# Altium schematic symbol library Diode.SchLib: 24 symbols
Pins are listed as number, name and electrical type; pins without a type are passive.

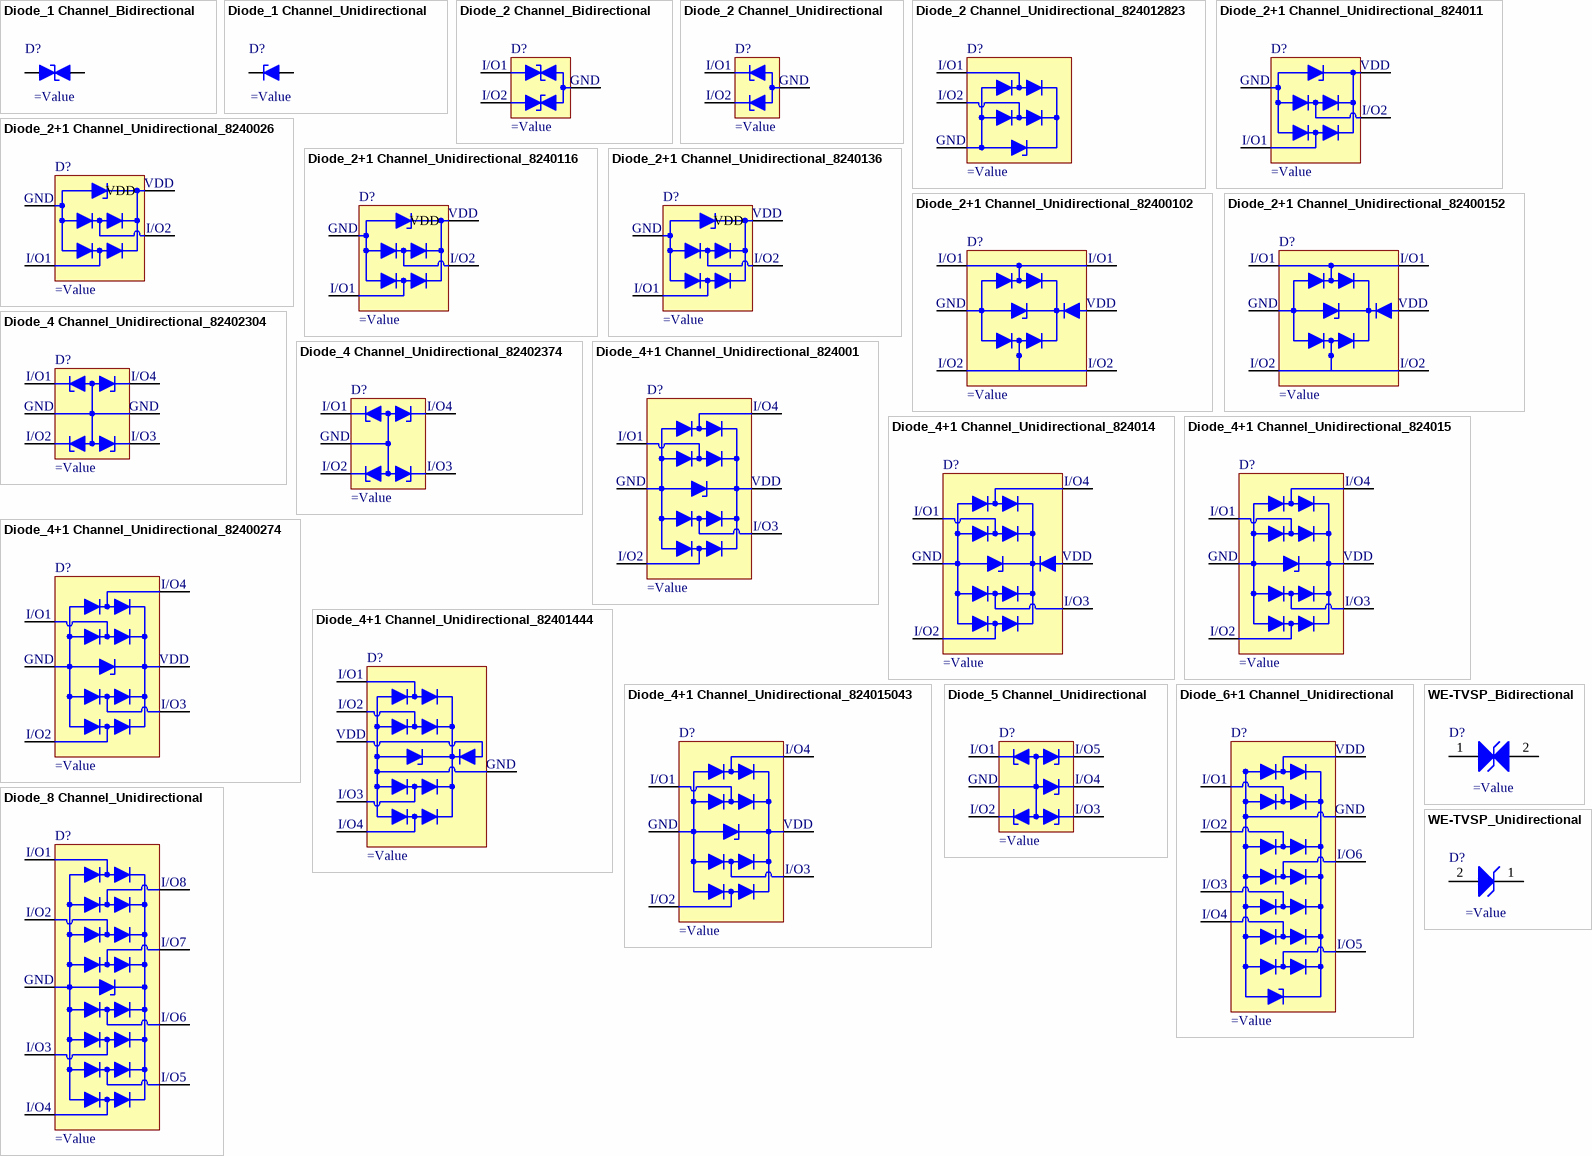
[diagram p0: symbols Diode_1 Channel_Bidirectional to WE-TVSP_Unidirectional]

## Diode_1 Channel_Bidirectional
designator D?
pins: 1 I/O 1, 2 GND

## Diode_1 Channel_Unidirectional
designator D?
pins: 1 I/O 1, 2 GND

## Diode_2 Channel_Bidirectional
designator D?
pins: 1 I/O 1, 2 I/O 2, 3 GND
text: I/O1; I/O2

## Diode_2 Channel_Unidirectional
designator D?
pins: 1 I/O 1, 2 I/O 2, 3 GND
text: I/O1; I/O2

## Diode_2 Channel_Unidirectional_824012823
designator D?
pins: 1 I/O 1, 2 I/O 2, 3 GND
text: I/O1; I/O2

## Diode_2+1 Channel_Unidirectional_824011
designator D?
pins: 2 GND, 3 I/O 1, 4 I/O 2, 5 VDD
text: I/O2; I/O1

## Diode_2+1 Channel_Unidirectional_8240026
designator D?
pins: 1 GND, 2 I/O 1, 3 I/O 2, 4 VDD
text: I/O2; I/O1

## Diode_2+1 Channel_Unidirectional_8240116
designator D?
pins: 1 GND, 2 I/O 1, 3 I/O 2, 4 VDD
text: I/O2; I/O1

## Diode_2+1 Channel_Unidirectional_8240136
designator D?
pins: 1 GND, 2 I/O 1, 3 I/O 2, 4 VDD
text: I/O2; I/O1

## Diode_2+1 Channel_Unidirectional_82400102
designator D?
pins: 1 I/O 1, 2 GND, 3 I/O 2, 4 I/O 2, 5 VDD, 6 I/O 1
text: I/O1; I/O2

## Diode_2+1 Channel_Unidirectional_82400152
designator D?
pins: 1 I/O 1, 2 GND, 3 I/O 2, 4 I/O 2, 5 VDD, 6 I/O 1
text: I/O1; I/O2

## Diode_4 Channel_Unidirectional_82402304
designator D?
pins: 1 I/O 1, 2 GND, 3 I/O 2, 4 I/O 3, 5 GND, 6 I/O 4
text: I/O1; I/O4; I/O2; I/O3

## Diode_4 Channel_Unidirectional_82402374
designator D?
pins: 1 I/O 1, 2 GND, 3 I/O 2, 4 I/O 3, 5 I/O 4
text: I/O1; I/O4; I/O2; I/O3

## Diode_4+1 Channel_Unidirectional_824001
designator D?
pins: 1 I/O 1, 2 GND, 3 I/O 2, 4 I/O 3, 5 VDD, 6 I/O 4
text: I/O4; I/O1; I/O3; I/O2

## Diode_4+1 Channel_Unidirectional_824014
designator D?
pins: 1 I/O 1, 2 GND, 3 I/O 2, 4 I/O 3, 5 VDD, 6 I/O 4
text: I/O4; I/O1; I/O3; I/O2

## Diode_4+1 Channel_Unidirectional_824015
designator D?
pins: 1 I/O 1, 2 GND, 3 I/O 2, 4 I/O 3, 5 VDD, 6 I/O 4
text: I/O4; I/O1; I/O3; I/O2

## Diode_4+1 Channel_Unidirectional_82400274
designator D?
pins: 1 I/O 1, 2 GND, 3 I/O 2, 4 I/O 3, 5 VDD, 6 I/O 4
text: I/O4; I/O1; I/O3; I/O2

## Diode_4+1 Channel_Unidirectional_82401444
designator D?
pins: 1 I/O 1, 2 I/O 2, 3 VDD, 4 I/O 3, 5 I/O 4, 8 GND
text: I/O1; I/O2; I/O3; I/O4

## Diode_4+1 Channel_Unidirectional_824015043
designator D?
pins: 1 I/O 1, 2 GND, 3 I/O 2, 4 I/O 3, 5 VDD, 6 I/O 4
text: I/O4; I/O1; I/O3; I/O2

## Diode_5 Channel_Unidirectional
designator D?
pins: 1 I/O 1, 2 GND, 3 I/O 2, 4 I/O 3, 5 I/O 4, 6 I/O 5
text: I/O1; I/O5; I/O4; I/O2; I/O3

## Diode_6+1 Channel_Unidirectional
designator D?
pins: 1 I/O 1, 2 I/O 2, 3 I/O 3, 4 I/O 4, 5 I/O 5, 6 I/O 6, 7 GND, 8 VDD
text: I/O1; I/O2; I/O6; I/O3; I/O4; I/O5

## Diode_8 Channel_Unidirectional
designator D?
pins: 1 I/O 1, 2 I/O 2, 3 GND, 4 I/O 3, 5 I/O 4, 6 I/O 5, 7 I/O 6, 8 I/O 7, 9 I/O 8
text: I/O1; I/O8; I/O2; I/O7; I/O6; I/O3; I/O5; I/O4

## WE-TVSP_Bidirectional
designator D?
pins: 1, 2

## WE-TVSP_Unidirectional
designator D?
pins: 1 K, 2 A